# Altium integrated library National Semiconductor MiscPower.IntLib: 1552 symbols (part 7 of 43)
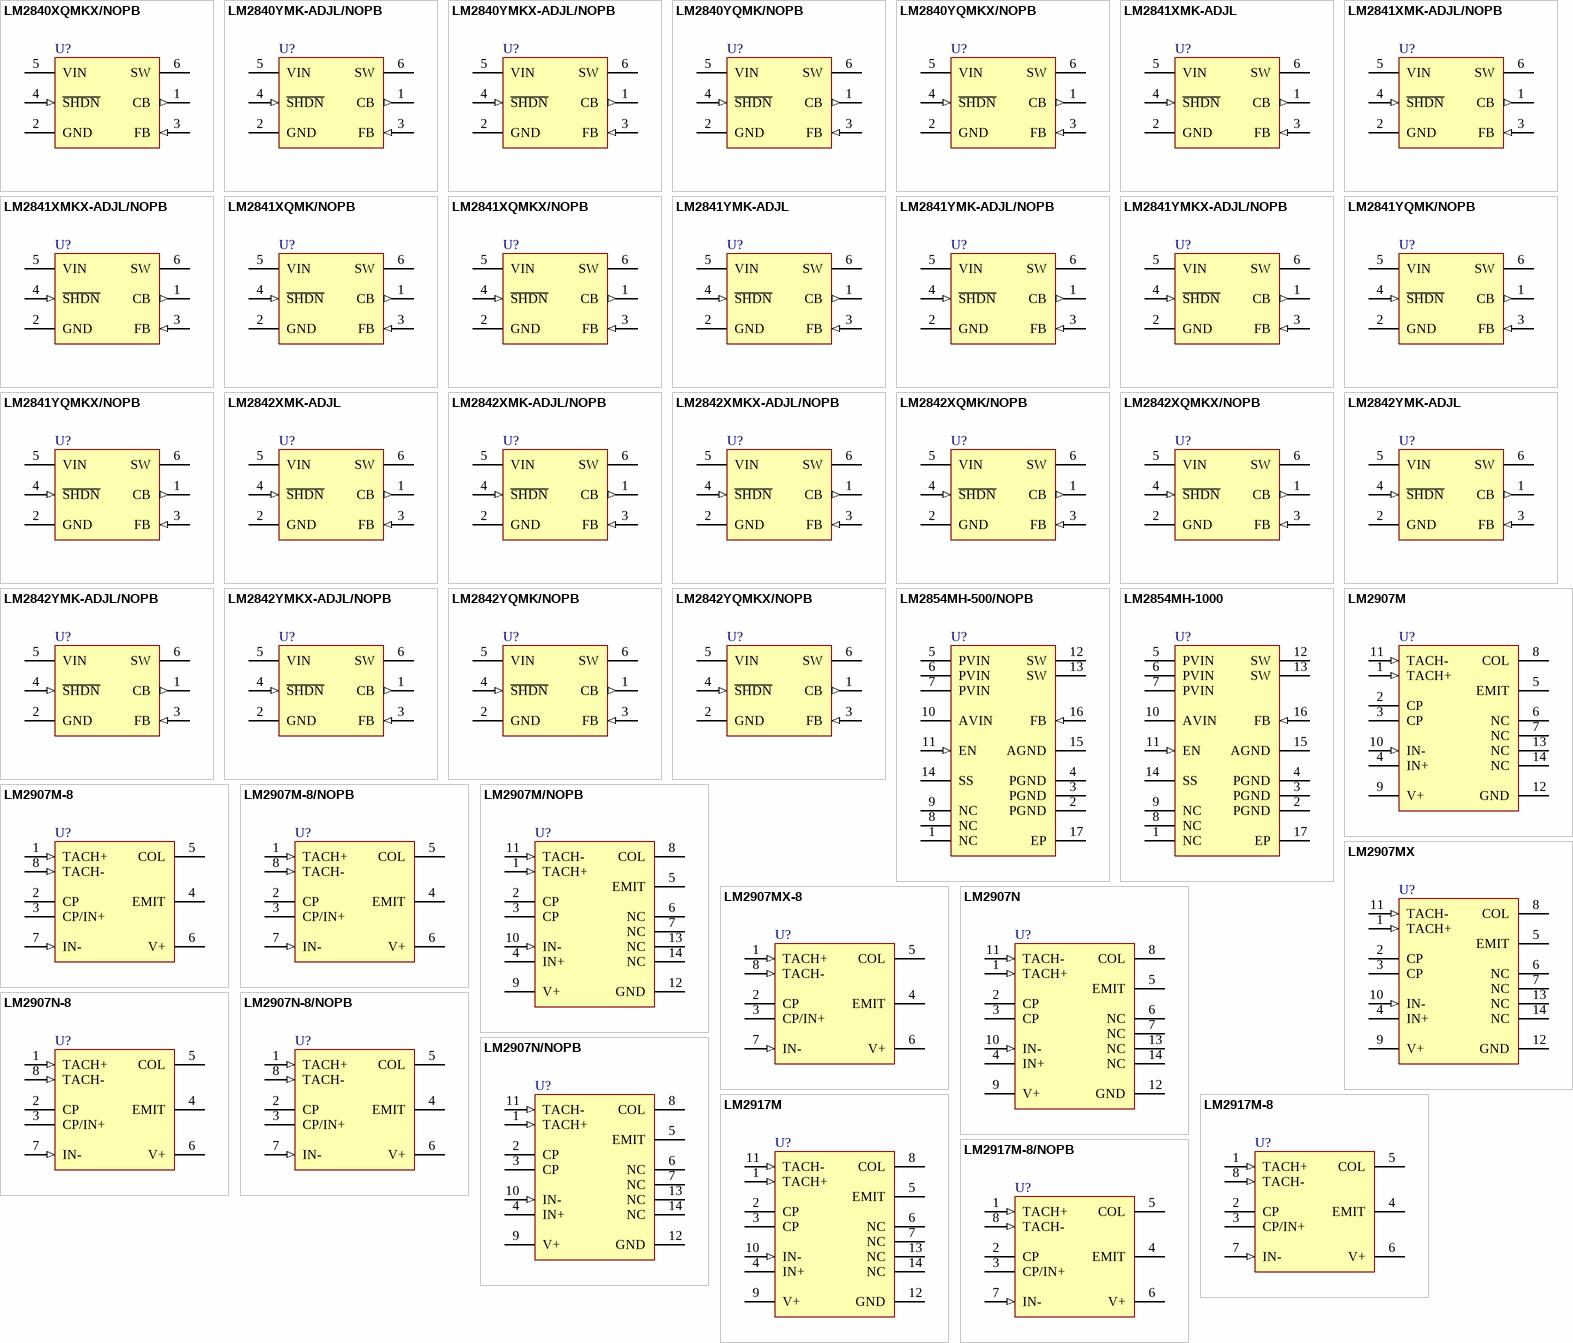
[diagram p63: symbols LM2840XQMKX/NOPB to LM2917M-8/NOPB]

## LM2842XMK-ADJL/NOPB
designator U?
600 mA up to 42V Input Step-Down DC/DC Regulator, Thin 6-pin SOT23, Pb-Free, 1000 Reel; PartNumber: LM2842XMK-ADJL/NOPB; Manufacturer: National Semiconductor; PackageTopMarking: STVB*XTT; PowerWise: N; CompType: MiscPower; High-Reliability: Y; DatasheetVersion: Aug-2011; PackageVersion: revE, Nov-2008; PackageReference: MK06A; PackageDescription: Molded TSOT, 2.97 x 1.65 x 0.87mm Body, 6 Lead, 0.95mm Pitch; RoHS: Y; PinCount: 6; Code_JEDEC: MO-193-AA; Code_IPC: SOT26A-6; ComponentLink1Description: Manufacturer URL; ComponentLink1URL: http://www.national.com/; ComponentLink2Description: LM2842 Datasheet; ComponentLink2URL: http://www.national.com/ds/LM/LM2840.pdf; ComponentLink3Description: LM2842 Web Page; ComponentLink3URL: http://www.national.com/pf/LM/LM2842.html; ComponentLink4Description: MK06A Package Page; ComponentLink4URL: http://www.national.com/packaging/folders/mk06a.html
footprint MK06A_N (SOT23, 6-Leads, Body 3.0x1.7mm, Pitch 0.95mm, Lead Span 2.9mm, IPC Medium Density)
footprint MK06A_L (SOT23, 6-Leads, Body 3.0x1.7mm, Pitch 0.95mm, Lead Span 2.9mm, IPC High Density)
footprint MK06A_M (SOT23, 6-Leads, Body 3.0x1.7mm, Pitch 0.95mm, Lead Span 2.9mm, IPC Low Density)
pins: 1 CB (out), 2 GND (power), 3 FB (in), 4 ~{SHDN} (in), 5 VIN (power), 6 SW (power)

## LM2842XMKX-ADJL/NOPB
designator U?
600 mA up to 42V Input Step-Down DC/DC Regulator, Thin 6-pin SOT23, Pb-Free, 3000 Reel; PartNumber: LM2842XMKX-ADJL/NOPB; Manufacturer: National Semiconductor; PackageTopMarking: STVB*XTT; PowerWise: N; CompType: MiscPower; High-Reliability: Y; DatasheetVersion: Aug-2011; PackageVersion: revE, Nov-2008; PackageReference: MK06A; PackageDescription: Molded TSOT, 2.97 x 1.65 x 0.87mm Body, 6 Lead, 0.95mm Pitch; RoHS: Y; PinCount: 6; Code_JEDEC: MO-193-AA; Code_IPC: SOT26A-6; ComponentLink1Description: Manufacturer URL; ComponentLink1URL: http://www.national.com/; ComponentLink2Description: LM2842 Datasheet; ComponentLink2URL: http://www.national.com/ds/LM/LM2840.pdf; ComponentLink3Description: LM2842 Web Page; ComponentLink3URL: http://www.national.com/pf/LM/LM2842.html; ComponentLink4Description: MK06A Package Page; ComponentLink4URL: http://www.national.com/packaging/folders/mk06a.html
footprint MK06A_N (SOT23, 6-Leads, Body 3.0x1.7mm, Pitch 0.95mm, Lead Span 2.9mm, IPC Medium Density)
footprint MK06A_L (SOT23, 6-Leads, Body 3.0x1.7mm, Pitch 0.95mm, Lead Span 2.9mm, IPC High Density)
footprint MK06A_M (SOT23, 6-Leads, Body 3.0x1.7mm, Pitch 0.95mm, Lead Span 2.9mm, IPC Low Density)
pins: 1 CB (out), 2 GND (power), 3 FB (in), 4 ~{SHDN} (in), 5 VIN (power), 6 SW (power)

## LM2842XQMK/NOPB
designator U?
600 mA up to 42V Input Step-Down DC/DC Regulator, Automotive Grade 1, Thin 6-pin SOT23, Pb-Free, 1000 Reel; PartNumber: LM2842XQMK/NOPB; Manufacturer: National Semiconductor; PackageTopMarking: SB3B*XTT; PowerWise: N; CompType: MiscPower; High-Reliability: Y; DatasheetVersion: Aug-2011; PackageVersion: revE, Nov-2008; PackageReference: MK06A; PackageDescription: Molded TSOT, 2.97 x 1.65 x 0.87mm Body, 6 Lead, 0.95mm Pitch; RoHS: Y; PinCount: 6; Code_JEDEC: MO-193-AA; Code_IPC: SOT26A-6; ComponentLink1Description: Manufacturer URL; ComponentLink1URL: http://www.national.com/; ComponentLink2Description: LM2842 Datasheet; ComponentLink2URL: http://www.national.com/ds/LM/LM2840.pdf; ComponentLink3Description: LM2842 Web Page; ComponentLink3URL: http://www.national.com/pf/LM/LM2842.html; ComponentLink4Description: MK06A Package Page; ComponentLink4URL: http://www.national.com/packaging/folders/mk06a.html
footprint MK06A_N (SOT23, 6-Leads, Body 3.0x1.7mm, Pitch 0.95mm, Lead Span 2.9mm, IPC Medium Density)
footprint MK06A_L (SOT23, 6-Leads, Body 3.0x1.7mm, Pitch 0.95mm, Lead Span 2.9mm, IPC High Density)
footprint MK06A_M (SOT23, 6-Leads, Body 3.0x1.7mm, Pitch 0.95mm, Lead Span 2.9mm, IPC Low Density)
pins: 1 CB (out), 2 GND (power), 3 FB (in), 4 ~{SHDN} (in), 5 VIN (power), 6 SW (power)

## LM2842XQMKX/NOPB
designator U?
600 mA up to 42V Input Step-Down DC/DC Regulator, Automotive Grade 1, Thin 6-pin SOT23, Pb-Free, 3000 Reel; PartNumber: LM2842XQMKX/NOPB; Manufacturer: National Semiconductor; PackageTopMarking: SB3B*XTT; PowerWise: N; CompType: MiscPower; High-Reliability: Y; DatasheetVersion: Aug-2011; PackageVersion: revE, Nov-2008; PackageReference: MK06A; PackageDescription: Molded TSOT, 2.97 x 1.65 x 0.87mm Body, 6 Lead, 0.95mm Pitch; RoHS: Y; PinCount: 6; Code_JEDEC: MO-193-AA; Code_IPC: SOT26A-6; ComponentLink1Description: Manufacturer URL; ComponentLink1URL: http://www.national.com/; ComponentLink2Description: LM2842 Datasheet; ComponentLink2URL: http://www.national.com/ds/LM/LM2840.pdf; ComponentLink3Description: LM2842 Web Page; ComponentLink3URL: http://www.national.com/pf/LM/LM2842.html; ComponentLink4Description: MK06A Package Page; ComponentLink4URL: http://www.national.com/packaging/folders/mk06a.html
footprint MK06A_N (SOT23, 6-Leads, Body 3.0x1.7mm, Pitch 0.95mm, Lead Span 2.9mm, IPC Medium Density)
footprint MK06A_L (SOT23, 6-Leads, Body 3.0x1.7mm, Pitch 0.95mm, Lead Span 2.9mm, IPC High Density)
footprint MK06A_M (SOT23, 6-Leads, Body 3.0x1.7mm, Pitch 0.95mm, Lead Span 2.9mm, IPC Low Density)
pins: 1 CB (out), 2 GND (power), 3 FB (in), 4 ~{SHDN} (in), 5 VIN (power), 6 SW (power)

## LM2842YMK-ADJL
designator U?
300 mA/600 mA up to 42V Input Step-Down DC/DC Regulator, 6-pin Tiny SOT23; PartNumber: LM2842YMK-ADJL; Manufacturer: National Semiconductor; PackageTopMarking: STXB*XTT; PowerWise: N; CompType: MiscPower; High-Reliability: Y; DatasheetVersion: Sep-2009; PackageVersion: revE, Nov-2008; PackageReference: MK06A; PackageDescription: Molded TSOT, 2.97 x 1.65 x 0.87mm Body, 6 Lead, 0.95mm Pitch; RoHS: Y; PinCount: 6; Code_JEDEC: MO-193-AA; Code_IPC: SOT26A-6; ComponentLink1Description: Manufacturer URL; ComponentLink1URL: http://www.national.com/; ComponentLink2Description: LM2841 Datasheet; ComponentLink2URL: http://www.national.com/ds/LM/LM2841.pdf; ComponentLink3Description: LM2842 Web Page; ComponentLink3URL: http://www.national.com/pf/LM/LM2842.html; ComponentLink4Description: MK06A Package Page; ComponentLink4URL: http://www.national.com/packaging/folders/mk06a.html
footprint MK06A_N (SOT23, 6-Leads, Body 3.0x1.7mm, Pitch 0.95mm, Lead Span 2.9mm, IPC Medium Density)
footprint MK06A_L (SOT23, 6-Leads, Body 3.0x1.7mm, Pitch 0.95mm, Lead Span 2.9mm, IPC High Density)
footprint MK06A_M (SOT23, 6-Leads, Body 3.0x1.7mm, Pitch 0.95mm, Lead Span 2.9mm, IPC Low Density)
pins: 1 CB (out), 2 GND (power), 3 FB (in), 4 ~{SHDN} (in), 5 VIN (power), 6 SW (power)

## LM2842YMK-ADJL/NOPB
designator U?
600 mA up to 42V Input Step-Down DC/DC Regulator, Thin 6-pin SOT23, Pb-Free, 1000 Reel; PartNumber: LM2842YMK-ADJL/NOPB; Manufacturer: National Semiconductor; PackageTopMarking: STXB*XTT; PowerWise: N; CompType: MiscPower; High-Reliability: Y; DatasheetVersion: Aug-2011; PackageVersion: revE, Nov-2008; PackageReference: MK06A; PackageDescription: Molded TSOT, 2.97 x 1.65 x 0.87mm Body, 6 Lead, 0.95mm Pitch; RoHS: Y; PinCount: 6; Code_JEDEC: MO-193-AA; Code_IPC: SOT26A-6; ComponentLink1Description: Manufacturer URL; ComponentLink1URL: http://www.national.com/; ComponentLink2Description: LM2842 Datasheet; ComponentLink2URL: http://www.national.com/ds/LM/LM2840.pdf; ComponentLink3Description: LM2842 Web Page; ComponentLink3URL: http://www.national.com/pf/LM/LM2842.html; ComponentLink4Description: MK06A Package Page; ComponentLink4URL: http://www.national.com/packaging/folders/mk06a.html
footprint MK06A_N (SOT23, 6-Leads, Body 3.0x1.7mm, Pitch 0.95mm, Lead Span 2.9mm, IPC Medium Density)
footprint MK06A_L (SOT23, 6-Leads, Body 3.0x1.7mm, Pitch 0.95mm, Lead Span 2.9mm, IPC High Density)
footprint MK06A_M (SOT23, 6-Leads, Body 3.0x1.7mm, Pitch 0.95mm, Lead Span 2.9mm, IPC Low Density)
pins: 1 CB (out), 2 GND (power), 3 FB (in), 4 ~{SHDN} (in), 5 VIN (power), 6 SW (power)

## LM2842YMKX-ADJL/NOPB
designator U?
600 mA up to 42V Input Step-Down DC/DC Regulator, Thin 6-pin SOT23, Pb-Free, 3000 Reel; PartNumber: LM2842YMKX-ADJL/NOPB; Manufacturer: National Semiconductor; PackageTopMarking: STXB*XTT; PowerWise: N; CompType: MiscPower; High-Reliability: Y; DatasheetVersion: Aug-2011; PackageVersion: revE, Nov-2008; PackageReference: MK06A; PackageDescription: Molded TSOT, 2.97 x 1.65 x 0.87mm Body, 6 Lead, 0.95mm Pitch; RoHS: Y; PinCount: 6; Code_JEDEC: MO-193-AA; Code_IPC: SOT26A-6; ComponentLink1Description: Manufacturer URL; ComponentLink1URL: http://www.national.com/; ComponentLink2Description: LM2842 Datasheet; ComponentLink2URL: http://www.national.com/ds/LM/LM2840.pdf; ComponentLink3Description: LM2842 Web Page; ComponentLink3URL: http://www.national.com/pf/LM/LM2842.html; ComponentLink4Description: MK06A Package Page; ComponentLink4URL: http://www.national.com/packaging/folders/mk06a.html
footprint MK06A_N (SOT23, 6-Leads, Body 3.0x1.7mm, Pitch 0.95mm, Lead Span 2.9mm, IPC Medium Density)
footprint MK06A_L (SOT23, 6-Leads, Body 3.0x1.7mm, Pitch 0.95mm, Lead Span 2.9mm, IPC High Density)
footprint MK06A_M (SOT23, 6-Leads, Body 3.0x1.7mm, Pitch 0.95mm, Lead Span 2.9mm, IPC Low Density)
pins: 1 CB (out), 2 GND (power), 3 FB (in), 4 ~{SHDN} (in), 5 VIN (power), 6 SW (power)

## LM2842YQMK/NOPB
designator U?
600 mA up to 42V Input Step-Down DC/DC Regulator, Automotive Grade 1, Thin 6-pin SOT23, Pb-Free, 1000 Reel; PartNumber: LM2842YQMK/NOPB; Manufacturer: National Semiconductor; PackageTopMarking: SB4B*XTT; PowerWise: N; CompType: MiscPower; High-Reliability: Y; DatasheetVersion: Aug-2011; PackageVersion: revE, Nov-2008; PackageReference: MK06A; PackageDescription: Molded TSOT, 2.97 x 1.65 x 0.87mm Body, 6 Lead, 0.95mm Pitch; RoHS: Y; PinCount: 6; Code_JEDEC: MO-193-AA; Code_IPC: SOT26A-6; ComponentLink1Description: Manufacturer URL; ComponentLink1URL: http://www.national.com/; ComponentLink2Description: LM2842 Datasheet; ComponentLink2URL: http://www.national.com/ds/LM/LM2840.pdf; ComponentLink3Description: LM2842 Web Page; ComponentLink3URL: http://www.national.com/pf/LM/LM2842.html; ComponentLink4Description: MK06A Package Page; ComponentLink4URL: http://www.national.com/packaging/folders/mk06a.html
footprint MK06A_N (SOT23, 6-Leads, Body 3.0x1.7mm, Pitch 0.95mm, Lead Span 2.9mm, IPC Medium Density)
footprint MK06A_L (SOT23, 6-Leads, Body 3.0x1.7mm, Pitch 0.95mm, Lead Span 2.9mm, IPC High Density)
footprint MK06A_M (SOT23, 6-Leads, Body 3.0x1.7mm, Pitch 0.95mm, Lead Span 2.9mm, IPC Low Density)
pins: 1 CB (out), 2 GND (power), 3 FB (in), 4 ~{SHDN} (in), 5 VIN (power), 6 SW (power)

## LM2842YQMKX/NOPB
designator U?
600 mA up to 42V Input Step-Down DC/DC Regulator, Automotive Grade 1, Thin 6-pin SOT23, Pb-Free, 3000 Reel; PartNumber: LM2842YQMKX/NOPB; Manufacturer: National Semiconductor; PackageTopMarking: SB4B*XTT; PowerWise: N; CompType: MiscPower; High-Reliability: Y; DatasheetVersion: Aug-2011; PackageVersion: revE, Nov-2008; PackageReference: MK06A; PackageDescription: Molded TSOT, 2.97 x 1.65 x 0.87mm Body, 6 Lead, 0.95mm Pitch; RoHS: Y; PinCount: 6; Code_JEDEC: MO-193-AA; Code_IPC: SOT26A-6; ComponentLink1Description: Manufacturer URL; ComponentLink1URL: http://www.national.com/; ComponentLink2Description: LM2842 Datasheet; ComponentLink2URL: http://www.national.com/ds/LM/LM2840.pdf; ComponentLink3Description: LM2842 Web Page; ComponentLink3URL: http://www.national.com/pf/LM/LM2842.html; ComponentLink4Description: MK06A Package Page; ComponentLink4URL: http://www.national.com/packaging/folders/mk06a.html
footprint MK06A_N (SOT23, 6-Leads, Body 3.0x1.7mm, Pitch 0.95mm, Lead Span 2.9mm, IPC Medium Density)
footprint MK06A_L (SOT23, 6-Leads, Body 3.0x1.7mm, Pitch 0.95mm, Lead Span 2.9mm, IPC High Density)
footprint MK06A_M (SOT23, 6-Leads, Body 3.0x1.7mm, Pitch 0.95mm, Lead Span 2.9mm, IPC Low Density)
pins: 1 CB (out), 2 GND (power), 3 FB (in), 4 ~{SHDN} (in), 5 VIN (power), 6 SW (power)

## LM2854MH-500/NOPB
designator U?
4A 500 kHz / 1 MHz Synchronous SIMPLE SWITCHER® Buck Regulator, 16-pin TSSOP-EP, Pb-Free; PartNumber: LM2854MH-500/NOPB; Manufacturer: National Semiconductor; PackageTopMarking: NSUZXYTT*LM2854*-500; PowerWise: Y; CompType: MiscPower; DatasheetVersion: Nov-2008; PackageVersion: revA, Apr-2003; PackageReference: MXA16A; PackageDescription: Molded TSSOP, Jedec, Exposed Pad, 5.0 x 4.4 x 0.9mm Body,16 Lead, 0.65mm Pitch; RoHS: Y; PinCount: 16; High-Reliability: Y; Code_JEDEC: MO-153-ABT; ComponentLink1Description: Manufacturer URL; ComponentLink1URL: http://www.national.com/; ComponentLink2Description: LM2854 Datasheet; ComponentLink2URL: http://www.national.com/ds/LM/LM2854.pdf; ComponentLink3Description: LM2854 Web Page; ComponentLink3URL: http://www.national.com/pf/LM/LM2854.html; ComponentLink4Description: MXA16A Package Page; ComponentLink4URL: http://www.national.com/packaging/folders/mxa16a.html
footprint MXA16A_N (TSOP, 16-Leads, Body 5x4.4mm, Pitch 0.65mm, Thermal Pad, IPC Medium Density)
footprint MXA16A_L (TSOP, 16-Leads, Body 5x4.4mm, Pitch 0.65mm, Thermal Pad, IPC High Density)
footprint MXA16A_M (TSOP, 16-Leads, Body 5x4.4mm, Pitch 0.65mm, Thermal Pad, IPC Low Density)
pins: 1 NC, 2 PGND (power), 3 PGND (power), 4 PGND (power), 5 PVIN (power), 6 PVIN (power), 7 PVIN (power), 8 NC, 9 NC, 10 AVIN (power), 11 EN (in), 12 SW (power), 13 SW (power), 14 SS, 15 AGND (power), 16 FB (in), 17 EP (power)

## LM2854MH-1000
designator U?
4A 500 kHz / 1 MHz PowerWise Synchronous SIMPLE SWITCHER® Buck Regulator, 16-pin TSSOP-EP; PartNumber: LM2854MH-1000; Manufacturer: National Semiconductor; PackageTopMarking: NSUZXYTT*LM2854*-1000; PowerWise: Y; CompType: MiscPower; DatasheetVersion: Nov-2008; PackageVersion: revA, Apr-2003; PackageReference: MXA16A; PackageDescription: Molded TSSOP, Jedec, Exposed Pad, 5.0 x 4.4 x 0.9mm Body,16 Lead, 0.65mm Pitch; RoHS: Y; PinCount: 16; High-Reliability: Y; Code_JEDEC: MO-153-ABT; ComponentLink1Description: Manufacturer URL; ComponentLink1URL: http://www.national.com/; ComponentLink2Description: LM2854 Datasheet; ComponentLink2URL: http://www.national.com/ds/LM/LM2854.pdf; ComponentLink3Description: LM2854 Web Page; ComponentLink3URL: http://www.national.com/pf/LM/LM2854.html; ComponentLink4Description: MXA16A Package Page; ComponentLink4URL: http://www.national.com/packaging/folders/mxa16a.html
footprint MXA16A_N (TSOP, 16-Leads, Body 5x4.4mm, Pitch 0.65mm, Thermal Pad, IPC Medium Density)
footprint MXA16A_L (TSOP, 16-Leads, Body 5x4.4mm, Pitch 0.65mm, Thermal Pad, IPC High Density)
footprint MXA16A_M (TSOP, 16-Leads, Body 5x4.4mm, Pitch 0.65mm, Thermal Pad, IPC Low Density)
pins: 1 NC, 2 PGND (power), 3 PGND (power), 4 PGND (power), 5 PVIN (power), 6 PVIN (power), 7 PVIN (power), 8 NC, 9 NC, 10 AVIN (power), 11 EN (in), 12 SW (power), 13 SW (power), 14 SS, 15 AGND (power), 16 FB (in), 17 EP (power)

## LM2907M
designator U?
Frequency to Voltage Converter, 14-pin Narrow SOIC; PartNumber: LM2907M; Manufacturer: National Semiconductor; PackageTopMarking: NSUZXYTTE#*LM2907M; PowerWise: N; CompType: MiscPower; High-Reliability: Y; DatasheetVersion: Dec-2008; PackageVersion: revJ, Jan-1996; PackageReference: M14A; PackageDescription: Molded Package S.O., .150in Wide, 14 Lead; RoHS: N; PinCount: 14; Code_JEDEC: MS-012AB; Code_IPC: SOIC127P600-14; ComponentLink1Description: Manufacturer URL; ComponentLink1URL: http://www.national.com/; ComponentLink2Description: LM2907 Datasheet; ComponentLink2URL: http://www.national.com/ds/LM/LM2907.pdf; ComponentLink3Description: LM2907 Web Page; ComponentLink3URL: http://www.national.com/pf/LM/LM2907.html; ComponentLink4Description: M14A Package Page; ComponentLink4URL: http://www.national.com/packaging/folders/m14a.html
footprint M14A_N (SOIC, 14-Leads, Body 8.6x3.9mm, Pitch 1.27mm, IPC Medium Density)
footprint M14A_L (SOIC, 14-Leads, Body 8.6x3.9mm, Pitch 1.27mm, IPC High Density)
footprint M14A_M (SOIC, 14-Leads, Body 8.6x3.9mm, Pitch 1.27mm, IPC Low Density)
pins: 1 TACH+ (in), 2 CP, 3 CP, 4 IN+, 5 EMIT, 6 NC, 7 NC, 8 COL, 9 V+ (power), 10 IN- (in), 11 TACH- (in), 12 GND (power), 13 NC, 14 NC

## LM2907M-8
designator U?
Frequency to Voltage Converter, 8-pin Narrow SOIC; PartNumber: LM2907M-8; Manufacturer: National Semiconductor; PackageTopMarking: NSZXTT*LM29*07M-8; PowerWise: N; CompType: MiscPower; High-Reliability: Y; DatasheetVersion: Dec-2008; PackageVersion: revM, May-2009; PackageReference: M08A; PackageDescription: SOIC Narrow, 4.9 x 3.9 x 1.45mm, 8 Lead, 1.27mm Pitch; RoHS: N; PinCount: 8; Code_JEDEC: MS-012-AA; Code_IPC: SOIC127P600-8; ComponentLink1Description: Manufacturer URL; ComponentLink1URL: http://www.national.com/; ComponentLink2Description: LM2907 Datasheet; ComponentLink2URL: http://www.national.com/ds/LM/LM2907.pdf; ComponentLink3Description: LM2907 Web Page; ComponentLink3URL: http://www.national.com/pf/LM/LM2907.html; ComponentLink4Description: M08A Package Page; ComponentLink4URL: http://www.national.com/packaging/folders/m08a.html
footprint M08A_N (SOIC, 8-Leads, Body 4.9x3.9mm, Pitch 1.27mm, IPC Medium Density)
footprint M08A_L (SOIC, 8-Leads, Body 4.9x3.9mm, Pitch 1.27mm, IPC High Density)
footprint M08A_M (SOIC, 8-Leads, Body 4.9x3.9mm, Pitch 1.27mm, IPC Low Density)
pins: 1 TACH+ (in), 2 CP, 3 CP/IN+, 4 EMIT, 5 COL, 6 V+ (power), 7 IN- (in), 8 TACH- (in)

## LM2907M-8/NOPB
designator U?
Frequency to Voltage Converter, 8-pin Narrow SOIC, Pb-Free; PartNumber: LM2907M-8/NOPB; Manufacturer: National Semiconductor; PackageTopMarking: NSZXTT*LM29*07M-8; PowerWise: N; CompType: MiscPower; High-Reliability: Y; DatasheetVersion: Dec-2008; PackageVersion: revM, May-2009; PackageReference: M08A; PackageDescription: SOIC Narrow, 4.9 x 3.9 x 1.45mm, 8 Lead, 1.27mm Pitch; RoHS: Y; PinCount: 8; Code_JEDEC: MS-012-AA; Code_IPC: SOIC127P600-8; ComponentLink1Description: Manufacturer URL; ComponentLink1URL: http://www.national.com/; ComponentLink2Description: LM2907 Datasheet; ComponentLink2URL: http://www.national.com/ds/LM/LM2907.pdf; ComponentLink3Description: LM2907 Web Page; ComponentLink3URL: http://www.national.com/pf/LM/LM2907.html; ComponentLink4Description: M08A Package Page; ComponentLink4URL: http://www.national.com/packaging/folders/m08a.html
footprint M08A_N (SOIC, 8-Leads, Body 4.9x3.9mm, Pitch 1.27mm, IPC Medium Density)
footprint M08A_L (SOIC, 8-Leads, Body 4.9x3.9mm, Pitch 1.27mm, IPC High Density)
footprint M08A_M (SOIC, 8-Leads, Body 4.9x3.9mm, Pitch 1.27mm, IPC Low Density)
pins: 1 TACH+ (in), 2 CP, 3 CP/IN+, 4 EMIT, 5 COL, 6 V+ (power), 7 IN- (in), 8 TACH- (in)

## LM2907M/NOPB
designator U?
Frequency to Voltage Converter, 14-pin Narrow SOIC, Pb-Free; PartNumber: LM2907M/NOPB; Manufacturer: National Semiconductor; PackageTopMarking: NSUZXYTTE#*LM2907M; PowerWise: N; CompType: MiscPower; High-Reliability: Y; DatasheetVersion: Dec-2008; PackageVersion: revJ, Jan-1996; PackageReference: M14A; PackageDescription: Molded Package S.O., .150in Wide, 14 Lead; RoHS: Y; PinCount: 14; Code_JEDEC: MS-012AB; Code_IPC: SOIC127P600-14; ComponentLink1Description: Manufacturer URL; ComponentLink1URL: http://www.national.com/; ComponentLink2Description: LM2907 Datasheet; ComponentLink2URL: http://www.national.com/ds/LM/LM2907.pdf; ComponentLink3Description: LM2907 Web Page; ComponentLink3URL: http://www.national.com/pf/LM/LM2907.html; ComponentLink4Description: M14A Package Page; ComponentLink4URL: http://www.national.com/packaging/folders/m14a.html
footprint M14A_N (SOIC, 14-Leads, Body 8.6x3.9mm, Pitch 1.27mm, IPC Medium Density)
footprint M14A_L (SOIC, 14-Leads, Body 8.6x3.9mm, Pitch 1.27mm, IPC High Density)
footprint M14A_M (SOIC, 14-Leads, Body 8.6x3.9mm, Pitch 1.27mm, IPC Low Density)
pins: 1 TACH+ (in), 2 CP, 3 CP, 4 IN+, 5 EMIT, 6 NC, 7 NC, 8 COL, 9 V+ (power), 10 IN- (in), 11 TACH- (in), 12 GND (power), 13 NC, 14 NC

## LM2907MX
designator U?
Frequency to Voltage Converter, 14-pin Narrow SOIC; PartNumber: LM2907MX; Manufacturer: National Semiconductor; PackageTopMarking: NSUZXYTTE#*LM2907M; PowerWise: N; CompType: MiscPower; High-Reliability: Y; DatasheetVersion: Dec-2008; PackageVersion: revJ, Jan-1996; PackageReference: M14A; PackageDescription: Molded Package S.O., .150in Wide, 14 Lead; RoHS: N; PinCount: 14; Code_JEDEC: MS-012AB; Code_IPC: SOIC127P600-14; ComponentLink1Description: Manufacturer URL; ComponentLink1URL: http://www.national.com/; ComponentLink2Description: LM2907 Datasheet; ComponentLink2URL: http://www.national.com/ds/LM/LM2907.pdf; ComponentLink3Description: LM2907 Web Page; ComponentLink3URL: http://www.national.com/pf/LM/LM2907.html; ComponentLink4Description: M14A Package Page; ComponentLink4URL: http://www.national.com/packaging/folders/m14a.html
footprint M14A_N (SOIC, 14-Leads, Body 8.6x3.9mm, Pitch 1.27mm, IPC Medium Density)
footprint M14A_L (SOIC, 14-Leads, Body 8.6x3.9mm, Pitch 1.27mm, IPC High Density)
footprint M14A_M (SOIC, 14-Leads, Body 8.6x3.9mm, Pitch 1.27mm, IPC Low Density)
pins: 1 TACH+ (in), 2 CP, 3 CP, 4 IN+, 5 EMIT, 6 NC, 7 NC, 8 COL, 9 V+ (power), 10 IN- (in), 11 TACH- (in), 12 GND (power), 13 NC, 14 NC

## LM2907MX-8
designator U?
Frequency to Voltage Converter, 8-pin Narrow SOIC; PartNumber: LM2907MX-8; Manufacturer: National Semiconductor; PackageTopMarking: NSZXTT*LM29*07M-8; PowerWise: N; CompType: MiscPower; High-Reliability: Y; DatasheetVersion: Dec-2008; PackageVersion: revM, May-2009; PackageReference: M08A; PackageDescription: SOIC Narrow, 4.9 x 3.9 x 1.45mm, 8 Lead, 1.27mm Pitch; RoHS: N; PinCount: 8; Code_JEDEC: MS-012-AA; Code_IPC: SOIC127P600-8; ComponentLink1Description: Manufacturer URL; ComponentLink1URL: http://www.national.com/; ComponentLink2Description: LM2907 Datasheet; ComponentLink2URL: http://www.national.com/ds/LM/LM2907.pdf; ComponentLink3Description: LM2907 Web Page; ComponentLink3URL: http://www.national.com/pf/LM/LM2907.html; ComponentLink4Description: M08A Package Page; ComponentLink4URL: http://www.national.com/packaging/folders/m08a.html
footprint M08A_N (SOIC, 8-Leads, Body 4.9x3.9mm, Pitch 1.27mm, IPC Medium Density)
footprint M08A_L (SOIC, 8-Leads, Body 4.9x3.9mm, Pitch 1.27mm, IPC High Density)
footprint M08A_M (SOIC, 8-Leads, Body 4.9x3.9mm, Pitch 1.27mm, IPC Low Density)
pins: 1 TACH+ (in), 2 CP, 3 CP/IN+, 4 EMIT, 5 COL, 6 V+ (power), 7 IN- (in), 8 TACH- (in)

## LM2907N
designator U?
Frequency to Voltage Converter, 14-pin MDIP; PartNumber: LM2907N; Manufacturer: National Semiconductor; PackageTopMarking: NSUZXYYTTE#*LM2907N; PowerWise: N; CompType: MiscPower; High-Reliability: Y; DatasheetVersion: Dec-2008; PackageVersion: revG, May-2006; PackageReference: N14A; PackageDescription: MDIP, .750 x .250 x.130in, 14 Lead, .100in Pitch; RoHS: N; PinCount: 14; Code_JEDEC: MS-001-AA; ComponentLink1Description: Manufacturer URL; ComponentLink1URL: http://www.national.com/; ComponentLink2Description: LM2907 Datasheet; ComponentLink2URL: http://www.national.com/ds/LM/LM2907.pdf; ComponentLink3Description: LM2907 Web Page; ComponentLink3URL: http://www.national.com/pf/LM/LM2907.html; ComponentLink4Description: N14A Package Page; ComponentLink4URL: http://www.national.com/packaging/folders/n14a.html
footprint N14A (DIP, 14-Leads, Row Spacing 7.62mm, Pitch 2.54mm, Body 19.56x6.35mm)
pins: 1 TACH+ (in), 2 CP, 3 CP, 4 IN+, 5 EMIT, 6 NC, 7 NC, 8 COL, 9 V+ (power), 10 IN- (in), 11 TACH- (in), 12 GND (power), 13 NC, 14 NC

## LM2907N-8
designator U?
Frequency to Voltage Converter, 8-pin MDIP; PartNumber: LM2907N-8; Manufacturer: National Semiconductor; PackageTopMarking: NSUZXYTTE#*LM*2907N-8; PowerWise: N; CompType: MiscPower; High-Reliability: Y; DatasheetVersion: Dec-2008; PackageVersion: revG, May-2006; PackageReference: N08E; PackageDescription: MDIP, .365 x .250 x .130in, 8 Lead, .100in Pitch; RoHS: N; PinCount: 8; Code_JEDEC: MS-001-BA; ComponentLink1Description: Manufacturer URL; ComponentLink1URL: http://www.national.com/; ComponentLink2Description: LM2907 Datasheet; ComponentLink2URL: http://www.national.com/ds/LM/LM2907.pdf; ComponentLink3Description: LM2907 Web Page; ComponentLink3URL: http://www.national.com/pf/LM/LM2907.html; ComponentLink4Description: N08E Package Page; ComponentLink4URL: http://www.national.com/packaging/folders/n08e.html
footprint N08E (DIP, 8-Leads, Row Spacing 7.62mm, Pitch 2.54mm, Body 9.91x6.35mm)
pins: 1 TACH+ (in), 2 CP, 3 CP/IN+, 4 EMIT, 5 COL, 6 V+ (power), 7 IN- (in), 8 TACH- (in)

## LM2907N-8/NOPB
designator U?
Frequency to Voltage Converter, 8-pin MDIP, Pb-Free; PartNumber: LM2907N-8/NOPB; Manufacturer: National Semiconductor; PackageTopMarking: NSUZXYTTE#*LM*2907N-8; PowerWise: N; CompType: MiscPower; High-Reliability: Y; DatasheetVersion: Dec-2008; PackageVersion: revG, May-2006; PackageReference: N08E; PackageDescription: MDIP, .365 x .250 x .130in, 8 Lead, .100in Pitch; RoHS: Y; PinCount: 8; Code_JEDEC: MS-001-BA; ComponentLink1Description: Manufacturer URL; ComponentLink1URL: http://www.national.com/; ComponentLink2Description: LM2907 Datasheet; ComponentLink2URL: http://www.national.com/ds/LM/LM2907.pdf; ComponentLink3Description: LM2907 Web Page; ComponentLink3URL: http://www.national.com/pf/LM/LM2907.html; ComponentLink4Description: N08E Package Page; ComponentLink4URL: http://www.national.com/packaging/folders/n08e.html
footprint N08E (DIP, 8-Leads, Row Spacing 7.62mm, Pitch 2.54mm, Body 9.91x6.35mm)
pins: 1 TACH+ (in), 2 CP, 3 CP/IN+, 4 EMIT, 5 COL, 6 V+ (power), 7 IN- (in), 8 TACH- (in)

## LM2907N/NOPB
designator U?
Frequency to Voltage Converter, 14-pin MDIP, Pb-Free; PartNumber: LM2907N/NOPB; Manufacturer: National Semiconductor; PackageTopMarking: NSUZXYYTTE#*LM2907N; PowerWise: N; CompType: MiscPower; High-Reliability: Y; DatasheetVersion: Dec-2008; PackageVersion: revG, May-2006; PackageReference: N14A; PackageDescription: MDIP, .750 x .250 x.130in, 14 Lead, .100in Pitch; RoHS: Y; PinCount: 14; Code_JEDEC: MS-001-AA; ComponentLink1Description: Manufacturer URL; ComponentLink1URL: http://www.national.com/; ComponentLink2Description: LM2907 Datasheet; ComponentLink2URL: http://www.national.com/ds/LM/LM2907.pdf; ComponentLink3Description: LM2907 Web Page; ComponentLink3URL: http://www.national.com/pf/LM/LM2907.html; ComponentLink4Description: N14A Package Page; ComponentLink4URL: http://www.national.com/packaging/folders/n14a.html
footprint N14A (DIP, 14-Leads, Row Spacing 7.62mm, Pitch 2.54mm, Body 19.56x6.35mm)
pins: 1 TACH+ (in), 2 CP, 3 CP, 4 IN+, 5 EMIT, 6 NC, 7 NC, 8 COL, 9 V+ (power), 10 IN- (in), 11 TACH- (in), 12 GND (power), 13 NC, 14 NC

## LM2917M
designator U?
Frequency to Voltage Converter, 14-pin Narrow SOIC; PartNumber: LM2917M; Manufacturer: National Semiconductor; PackageTopMarking: NSUZXYTTE#*LM2917M; PowerWise: N; CompType: MiscPower; High-Reliability: Y; DatasheetVersion: Dec-2008; PackageVersion: revJ, Jan-1996; PackageReference: M14A; PackageDescription: Molded Package S.O., .150in Wide, 14 Lead; RoHS: N; PinCount: 14; Code_JEDEC: MS-012AB; Code_IPC: SOIC127P600-14; ComponentLink1Description: Manufacturer URL; ComponentLink1URL: http://www.national.com/; ComponentLink2Description: LM2917 Datasheet; ComponentLink2URL: http://www.national.com/ds/LM/LM2917.pdf; ComponentLink3Description: LM2917 Web Page; ComponentLink3URL: http://www.national.com/pf/LM/LM2917.html; ComponentLink4Description: M14A Package Page; ComponentLink4URL: http://www.national.com/packaging/folders/m14a.html
footprint M14A_N (SOIC, 14-Leads, Body 8.6x3.9mm, Pitch 1.27mm, IPC Medium Density)
footprint M14A_L (SOIC, 14-Leads, Body 8.6x3.9mm, Pitch 1.27mm, IPC High Density)
footprint M14A_M (SOIC, 14-Leads, Body 8.6x3.9mm, Pitch 1.27mm, IPC Low Density)
pins: 1 TACH+ (in), 2 CP, 3 CP, 4 IN+, 5 EMIT, 6 NC, 7 NC, 8 COL, 9 V+ (power), 10 IN- (in), 11 TACH- (in), 12 GND (power), 13 NC, 14 NC

## LM2917M-8
designator U?
Frequency to Voltage Converter, 8-pin Narrow SOIC; PartNumber: LM2917M-8; Manufacturer: National Semiconductor; PackageTopMarking: NSZXTT*LM29*17M-8; PowerWise: N; CompType: MiscPower; High-Reliability: Y; DatasheetVersion: Dec-2008; PackageVersion: revM, May-2009; PackageReference: M08A; PackageDescription: SOIC Narrow, 4.9 x 3.9 x 1.45mm, 8 Lead, 1.27mm Pitch; RoHS: N; PinCount: 8; Code_JEDEC: MS-012-AA; Code_IPC: SOIC127P600-8; ComponentLink1Description: Manufacturer URL; ComponentLink1URL: http://www.national.com/; ComponentLink2Description: LM2917 Datasheet; ComponentLink2URL: http://www.national.com/ds/LM/LM2917.pdf; ComponentLink3Description: LM2917 Web Page; ComponentLink3URL: http://www.national.com/pf/LM/LM2917.html; ComponentLink4Description: M08A Package Page; ComponentLink4URL: http://www.national.com/packaging/folders/m08a.html
footprint M08A_N (SOIC, 8-Leads, Body 4.9x3.9mm, Pitch 1.27mm, IPC Medium Density)
footprint M08A_L (SOIC, 8-Leads, Body 4.9x3.9mm, Pitch 1.27mm, IPC High Density)
footprint M08A_M (SOIC, 8-Leads, Body 4.9x3.9mm, Pitch 1.27mm, IPC Low Density)
pins: 1 TACH+ (in), 2 CP, 3 CP/IN+, 4 EMIT, 5 COL, 6 V+ (power), 7 IN- (in), 8 TACH- (in)

## LM2917M-8/NOPB
designator U?
Frequency to Voltage Converter, 8-pin Narrow SOIC, Pb-Free; PartNumber: LM2917M-8/NOPB; Manufacturer: National Semiconductor; PackageTopMarking: NSZXTT*LM29*17M-8; PowerWise: N; CompType: MiscPower; High-Reliability: Y; DatasheetVersion: Dec-2008; PackageVersion: revM, May-2009; PackageReference: M08A; PackageDescription: SOIC Narrow, 4.9 x 3.9 x 1.45mm, 8 Lead, 1.27mm Pitch; RoHS: Y; PinCount: 8; Code_JEDEC: MS-012-AA; Code_IPC: SOIC127P600-8; ComponentLink1Description: Manufacturer URL; ComponentLink1URL: http://www.national.com/; ComponentLink2Description: LM2917 Datasheet; ComponentLink2URL: http://www.national.com/ds/LM/LM2917.pdf; ComponentLink3Description: LM2917 Web Page; ComponentLink3URL: http://www.national.com/pf/LM/LM2917.html; ComponentLink4Description: M08A Package Page; ComponentLink4URL: http://www.national.com/packaging/folders/m08a.html
footprint M08A_N (SOIC, 8-Leads, Body 4.9x3.9mm, Pitch 1.27mm, IPC Medium Density)
footprint M08A_L (SOIC, 8-Leads, Body 4.9x3.9mm, Pitch 1.27mm, IPC High Density)
footprint M08A_M (SOIC, 8-Leads, Body 4.9x3.9mm, Pitch 1.27mm, IPC Low Density)
pins: 1 TACH+ (in), 2 CP, 3 CP/IN+, 4 EMIT, 5 COL, 6 V+ (power), 7 IN- (in), 8 TACH- (in)

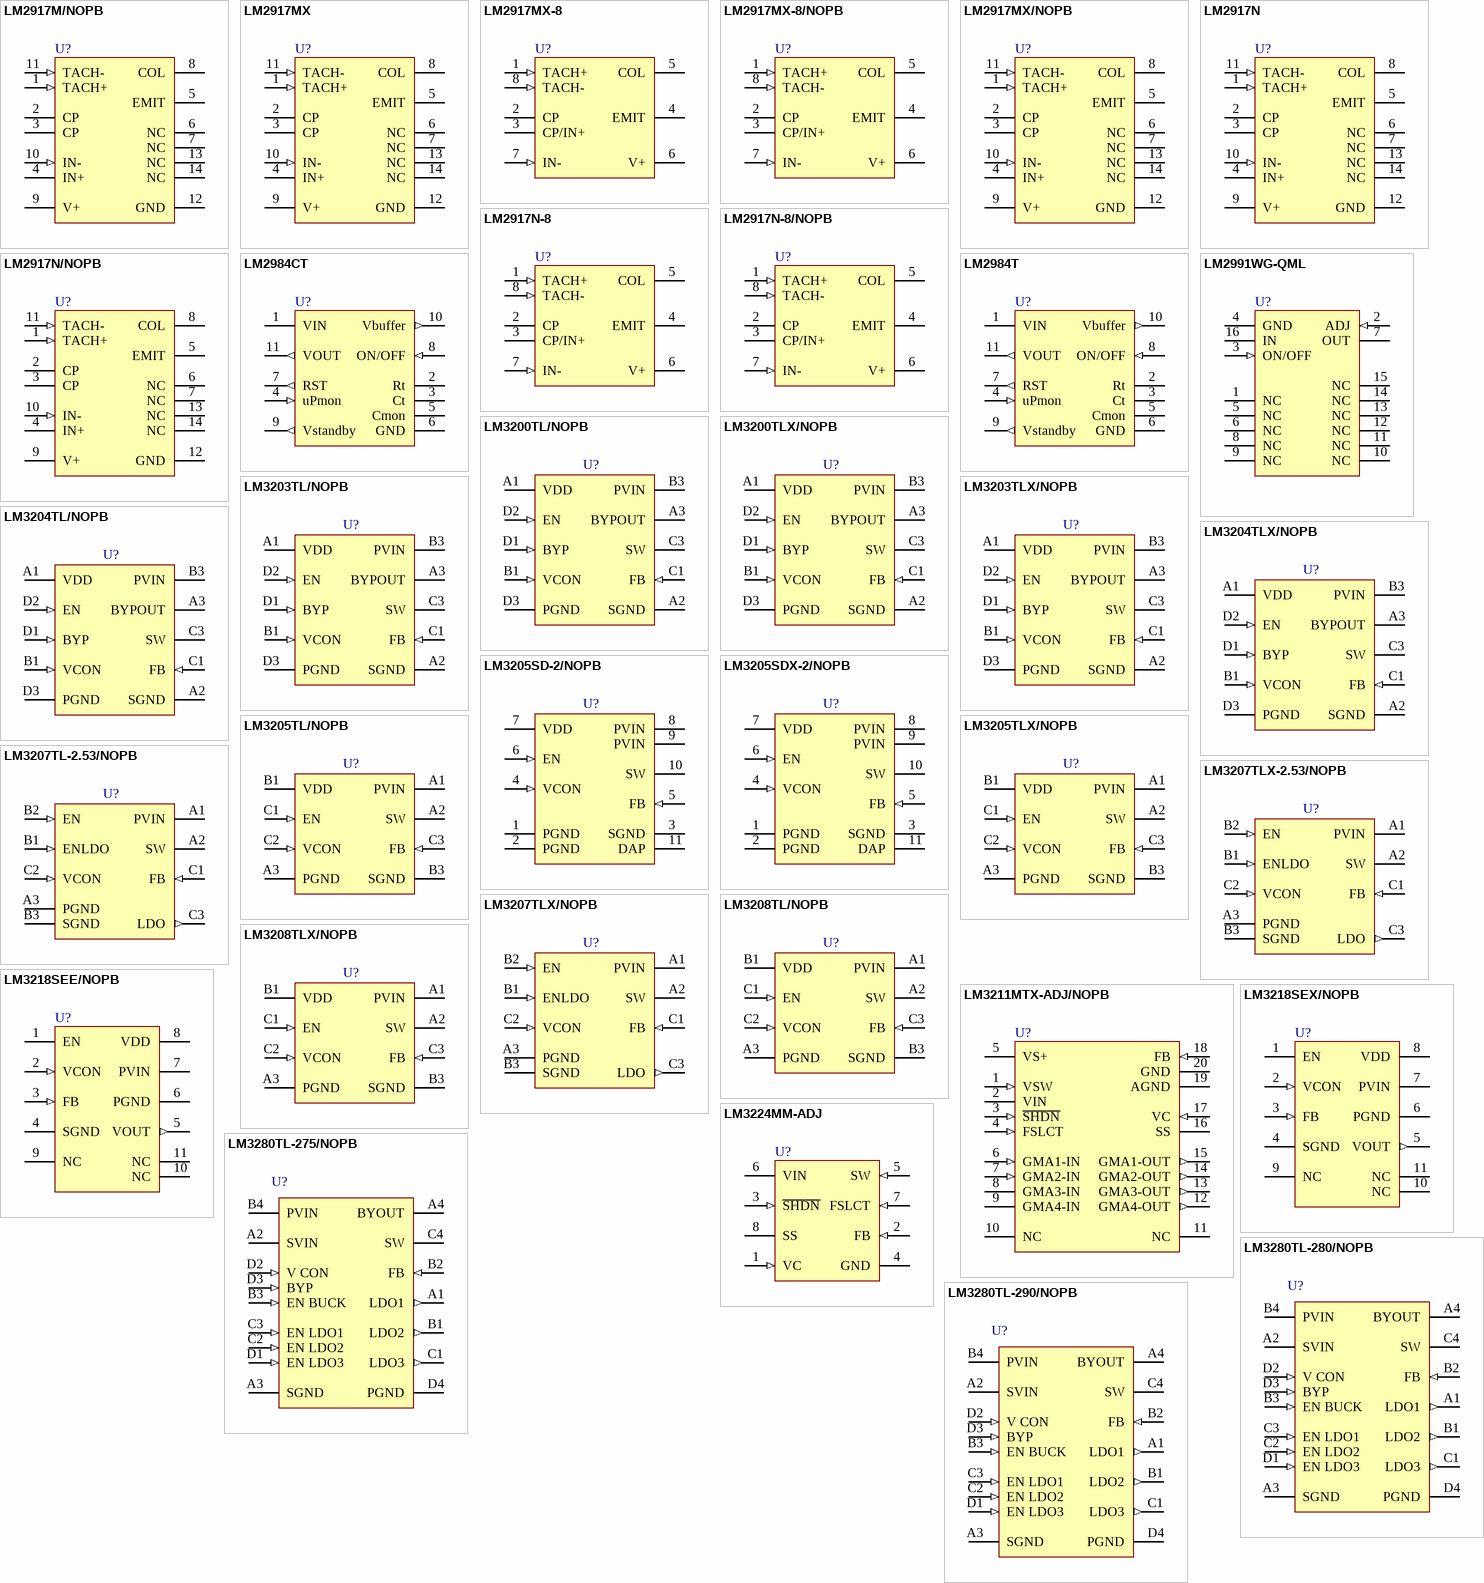
[diagram p8: symbols LM2917M/NOPB to LM3280TL-290/NOPB]

## LM2917M/NOPB
designator U?
Frequency to Voltage Converter, 14-pin Narrow SOIC, 55 Rail; PartNumber: LM2917M/NOPB; Manufacturer: National Semiconductor; PackageTopMarking: NSUZXYTTE#*LM2917M; PowerWise: N; CompType: MiscPower; High-Reliability: Y; DatasheetVersion: Dec-2008; PackageVersion: revJ, Jan-1996; PackageReference: M14A; PackageDescription: Molded Package S.O., .150in Wide, 14 Lead; RoHS: Y; PinCount: 14; Code_JEDEC: MS-012AB; Code_IPC: SOIC127P600-14; ComponentLink1Description: Manufacturer URL; ComponentLink1URL: http://www.national.com/; ComponentLink2Description: LM2917 Datasheet; ComponentLink2URL: http://www.national.com/ds/LM/LM2917.pdf; ComponentLink3Description: LM2917 Web Page; ComponentLink3URL: http://www.national.com/pf/LM/LM2917.html; ComponentLink4Description: M14A Package Page; ComponentLink4URL: http://www.national.com/packaging/folders/m14a.html
footprint M14A_N (SOIC, 14-Leads, Body 8.6x3.9mm, Pitch 1.27mm, IPC Medium Density)
footprint M14A_L (SOIC, 14-Leads, Body 8.6x3.9mm, Pitch 1.27mm, IPC High Density)
footprint M14A_M (SOIC, 14-Leads, Body 8.6x3.9mm, Pitch 1.27mm, IPC Low Density)
pins: 1 TACH+ (in), 2 CP, 3 CP, 4 IN+, 5 EMIT, 6 NC, 7 NC, 8 COL, 9 V+ (power), 10 IN- (in), 11 TACH- (in), 12 GND (power), 13 NC, 14 NC

## LM2917MX
designator U?
Frequency to Voltage Converter, 14-pin Narrow SOIC; PartNumber: LM2917MX; Manufacturer: National Semiconductor; PackageTopMarking: NSUZXYTTE#*LM2917M; PowerWise: N; CompType: MiscPower; High-Reliability: Y; DatasheetVersion: Dec-2008; PackageVersion: revJ, Jan-1996; PackageReference: M14A; PackageDescription: Molded Package S.O., .150in Wide, 14 Lead; RoHS: N; PinCount: 14; Code_JEDEC: MS-012AB; Code_IPC: SOIC127P600-14; ComponentLink1Description: Manufacturer URL; ComponentLink1URL: http://www.national.com/; ComponentLink2Description: LM2917 Datasheet; ComponentLink2URL: http://www.national.com/ds/LM/LM2917.pdf; ComponentLink3Description: LM2917 Web Page; ComponentLink3URL: http://www.national.com/pf/LM/LM2917.html; ComponentLink4Description: M14A Package Page; ComponentLink4URL: http://www.national.com/packaging/folders/m14a.html
footprint M14A_N (SOIC, 14-Leads, Body 8.6x3.9mm, Pitch 1.27mm, IPC Medium Density)
footprint M14A_L (SOIC, 14-Leads, Body 8.6x3.9mm, Pitch 1.27mm, IPC High Density)
footprint M14A_M (SOIC, 14-Leads, Body 8.6x3.9mm, Pitch 1.27mm, IPC Low Density)
pins: 1 TACH+ (in), 2 CP, 3 CP, 4 IN+, 5 EMIT, 6 NC, 7 NC, 8 COL, 9 V+ (power), 10 IN- (in), 11 TACH- (in), 12 GND (power), 13 NC, 14 NC

## LM2917MX-8
designator U?
Frequency to Voltage Converter, 8-pin Narrow SOIC; PartNumber: LM2917MX-8; Manufacturer: National Semiconductor; PackageTopMarking: NSZXTT*LM29*17M-8; PowerWise: N; CompType: MiscPower; High-Reliability: Y; DatasheetVersion: Dec-2008; PackageVersion: revM, May-2009; PackageReference: M08A; PackageDescription: SOIC Narrow, 4.9 x 3.9 x 1.45mm, 8 Lead, 1.27mm Pitch; RoHS: N; PinCount: 8; Code_JEDEC: MS-012-AA; Code_IPC: SOIC127P600-8; ComponentLink1Description: Manufacturer URL; ComponentLink1URL: http://www.national.com/; ComponentLink2Description: LM2917 Datasheet; ComponentLink2URL: http://www.national.com/ds/LM/LM2917.pdf; ComponentLink3Description: LM2917 Web Page; ComponentLink3URL: http://www.national.com/pf/LM/LM2917.html; ComponentLink4Description: M08A Package Page; ComponentLink4URL: http://www.national.com/packaging/folders/m08a.html
footprint M08A_N (SOIC, 8-Leads, Body 4.9x3.9mm, Pitch 1.27mm, IPC Medium Density)
footprint M08A_L (SOIC, 8-Leads, Body 4.9x3.9mm, Pitch 1.27mm, IPC High Density)
footprint M08A_M (SOIC, 8-Leads, Body 4.9x3.9mm, Pitch 1.27mm, IPC Low Density)
pins: 1 TACH+ (in), 2 CP, 3 CP/IN+, 4 EMIT, 5 COL, 6 V+ (power), 7 IN- (in), 8 TACH- (in)

## LM2917MX-8/NOPB
designator U?
Frequency to Voltage Converter, 8-pin Narrow SOIC, 2500 Reel; PartNumber: LM2917MX-8/NOPB; Manufacturer: National Semiconductor; PackageTopMarking: NSZXTT*LM29*17M-8; PowerWise: N; CompType: MiscPower; High-Reliability: Y; DatasheetVersion: Dec-2008; PackageVersion: revM, May-2009; PackageReference: M08A; PackageDescription: SOIC Narrow, 4.9 x 3.9 x 1.45mm, 8 Lead, 1.27mm Pitch; RoHS: Y; PinCount: 8; Code_JEDEC: MS-012-AA; Code_IPC: SOIC127P600-8; ComponentLink1Description: Manufacturer URL; ComponentLink1URL: http://www.national.com/; ComponentLink2Description: LM2917 Datasheet; ComponentLink2URL: http://www.national.com/ds/LM/LM2917.pdf; ComponentLink3Description: LM2917 Web Page; ComponentLink3URL: http://www.national.com/pf/LM/LM2917.html; ComponentLink4Description: M08A Package Page; ComponentLink4URL: http://www.national.com/packaging/folders/m08a.html
footprint M08A_N (SOIC, 8-Leads, Body 4.9x3.9mm, Pitch 1.27mm, IPC Medium Density)
footprint M08A_L (SOIC, 8-Leads, Body 4.9x3.9mm, Pitch 1.27mm, IPC High Density)
footprint M08A_M (SOIC, 8-Leads, Body 4.9x3.9mm, Pitch 1.27mm, IPC Low Density)
pins: 1 TACH+ (in), 2 CP, 3 CP/IN+, 4 EMIT, 5 COL, 6 V+ (power), 7 IN- (in), 8 TACH- (in)

## LM2917MX/NOPB
designator U?
Frequency to Voltage Converter, 14-pin Narrow SOIC, 2500 Reel; PartNumber: LM2917MX/NOPB; Manufacturer: National Semiconductor; PackageTopMarking: NSUZXYTTE#*LM2917M; PowerWise: N; CompType: MiscPower; High-Reliability: Y; DatasheetVersion: Dec-2008; PackageVersion: revJ, Jan-1996; PackageReference: M14A; PackageDescription: Molded Package S.O., .150in Wide, 14 Lead; RoHS: Y; PinCount: 14; Code_JEDEC: MS-012AB; Code_IPC: SOIC127P600-14; ComponentLink1Description: Manufacturer URL; ComponentLink1URL: http://www.national.com/; ComponentLink2Description: LM2917 Datasheet; ComponentLink2URL: http://www.national.com/ds/LM/LM2917.pdf; ComponentLink3Description: LM2917 Web Page; ComponentLink3URL: http://www.national.com/pf/LM/LM2917.html; ComponentLink4Description: M14A Package Page; ComponentLink4URL: http://www.national.com/packaging/folders/m14a.html
footprint M14A_N (SOIC, 14-Leads, Body 8.6x3.9mm, Pitch 1.27mm, IPC Medium Density)
footprint M14A_L (SOIC, 14-Leads, Body 8.6x3.9mm, Pitch 1.27mm, IPC High Density)
footprint M14A_M (SOIC, 14-Leads, Body 8.6x3.9mm, Pitch 1.27mm, IPC Low Density)
pins: 1 TACH+ (in), 2 CP, 3 CP, 4 IN+, 5 EMIT, 6 NC, 7 NC, 8 COL, 9 V+ (power), 10 IN- (in), 11 TACH- (in), 12 GND (power), 13 NC, 14 NC

## LM2917N
designator U?
Frequency to Voltage Converter, 14-pin MDIP; PartNumber: LM2917N; Manufacturer: National Semiconductor; PackageTopMarking: NSUZXYYTTE#*LM2917N; PowerWise: N; CompType: MiscPower; High-Reliability: Y; DatasheetVersion: Dec-2008; PackageVersion: revG, May-2006; PackageReference: N14A; PackageDescription: MDIP, .750 x .250 x.130in, 14 Lead, .100in Pitch; RoHS: N; PinCount: 14; Code_JEDEC: MS-001-AA; ComponentLink1Description: Manufacturer URL; ComponentLink1URL: http://www.national.com/; ComponentLink2Description: LM2917 Datasheet; ComponentLink2URL: http://www.national.com/ds/LM/LM2917.pdf; ComponentLink3Description: LM2917 Web Page; ComponentLink3URL: http://www.national.com/pf/LM/LM2917.html; ComponentLink4Description: N14A Package Page; ComponentLink4URL: http://www.national.com/packaging/folders/n14a.html
footprint N14A (DIP, 14-Leads, Row Spacing 7.62mm, Pitch 2.54mm, Body 19.56x6.35mm)
pins: 1 TACH+ (in), 2 CP, 3 CP, 4 IN+, 5 EMIT, 6 NC, 7 NC, 8 COL, 9 V+ (power), 10 IN- (in), 11 TACH- (in), 12 GND (power), 13 NC, 14 NC

## LM2917N-8
designator U?
Frequency to Voltage Converter, 8-pin MDIP; PartNumber: LM2917N-8; Manufacturer: National Semiconductor; PackageTopMarking: NSUZXYTTE#*LM*2917N-8; PowerWise: N; CompType: MiscPower; High-Reliability: Y; DatasheetVersion: Dec-2008; PackageVersion: revG, May-2006; PackageReference: N08E; PackageDescription: MDIP, .365 x .250 x .130in, 8 Lead, .100in Pitch; RoHS: N; PinCount: 8; Code_JEDEC: MS-001-BA; ComponentLink1Description: Manufacturer URL; ComponentLink1URL: http://www.national.com/; ComponentLink2Description: LM2917 Datasheet; ComponentLink2URL: http://www.national.com/ds/LM/LM2917.pdf; ComponentLink3Description: LM2917 Web Page; ComponentLink3URL: http://www.national.com/pf/LM/LM2917.html; ComponentLink4Description: N08E Package Page; ComponentLink4URL: http://www.national.com/packaging/folders/n08e.html
footprint N08E (DIP, 8-Leads, Row Spacing 7.62mm, Pitch 2.54mm, Body 9.91x6.35mm)
pins: 1 TACH+ (in), 2 CP, 3 CP/IN+, 4 EMIT, 5 COL, 6 V+ (power), 7 IN- (in), 8 TACH- (in)

## LM2917N-8/NOPB
designator U?
Frequency to Voltage Converter, 8-pin MDIP, Pb-Free; PartNumber: LM2917N-8/NOPB; Manufacturer: National Semiconductor; PackageTopMarking: NSUZXYTTE#*LM*2917N-8; PowerWise: N; CompType: MiscPower; High-Reliability: Y; DatasheetVersion: Dec-2008; PackageVersion: revG, May-2006; PackageReference: N08E; PackageDescription: MDIP, .365 x .250 x .130in, 8 Lead, .100in Pitch; RoHS: Y; PinCount: 8; Code_JEDEC: MS-001-BA; ComponentLink1Description: Manufacturer URL; ComponentLink1URL: http://www.national.com/; ComponentLink2Description: LM2917 Datasheet; ComponentLink2URL: http://www.national.com/ds/LM/LM2917.pdf; ComponentLink3Description: LM2917 Web Page; ComponentLink3URL: http://www.national.com/pf/LM/LM2917.html; ComponentLink4Description: N08E Package Page; ComponentLink4URL: http://www.national.com/packaging/folders/n08e.html
footprint N08E (DIP, 8-Leads, Row Spacing 7.62mm, Pitch 2.54mm, Body 9.91x6.35mm)
pins: 1 TACH+ (in), 2 CP, 3 CP/IN+, 4 EMIT, 5 COL, 6 V+ (power), 7 IN- (in), 8 TACH- (in)

## LM2917N/NOPB
designator U?
Frequency to Voltage Converter, 14-pin MDIP, Pb-Free; PartNumber: LM2917N/NOPB; Manufacturer: National Semiconductor; PackageTopMarking: NSUZXYYTTE#*LM2917N; PowerWise: N; CompType: MiscPower; High-Reliability: Y; DatasheetVersion: Dec-2008; PackageVersion: revG, May-2006; PackageReference: N14A; PackageDescription: MDIP, .750 x .250 x.130in, 14 Lead, .100in Pitch; RoHS: Y; PinCount: 14; Code_JEDEC: MS-001-AA; ComponentLink1Description: Manufacturer URL; ComponentLink1URL: http://www.national.com/; ComponentLink2Description: LM2917 Datasheet; ComponentLink2URL: http://www.national.com/ds/LM/LM2917.pdf; ComponentLink3Description: LM2917 Web Page; ComponentLink3URL: http://www.national.com/pf/LM/LM2917.html; ComponentLink4Description: N14A Package Page; ComponentLink4URL: http://www.national.com/packaging/folders/n14a.html
footprint N14A (DIP, 14-Leads, Row Spacing 7.62mm, Pitch 2.54mm, Body 19.56x6.35mm)
pins: 1 TACH+ (in), 2 CP, 3 CP, 4 IN+, 5 EMIT, 6 NC, 7 NC, 8 COL, 9 V+ (power), 10 IN- (in), 11 TACH- (in), 12 GND (power), 13 NC, 14 NC

## LM2984CT
designator U?
Microprocessor Power Supply System, 11-pin TO-220; PartNumber: LM2984CT; Manufacturer: National Semiconductor; PackageTopMarking: NSUZXYTTE#*LM2984CT*P+; PowerWise: N; CompType: MiscPower; High-Reliability: Y; DatasheetVersion: May-1989; PackageVersion: revA, Mar-1987; PackageReference: TA11B; PackageDescription: TO-220, Molded, .788 x .421in Body, 11 Lead, .067in Pitch; RoHS: N; PinCount: 11; ComponentLink1Description: Manufacturer URL; ComponentLink1URL: http://www.national.com/; ComponentLink2Description: LM2984C Datasheet; ComponentLink2URL: http://www.national.com/ds/LM/LM2984C.pdf; ComponentLink3Description: LM2984C Web Page; ComponentLink3URL: http://www.national.com/pf/LM/LM2984C.html; ComponentLink4Description: TA11B Package Page; ComponentLink4URL: http://www.national.com/packaging/folders/ta11b.html
footprint TA11B (TO, Thru-Hole, Vertical, Heatsink Mounted; 11 Bent Staggered Leads; Body 20x10.7x4.5mm, Pitch 1.7 mm)
pins: 1 VIN (power), 2 Rt, 3 Ct, 4 uPmon (in), 5 Cmon, 6 GND (power), 7 RST (out), 8 ON/OFF (in), 9 Vstandby (out), 10 Vbuffer (out), 11 VOUT (out)

## LM2984T
designator U?
Microprocessor Power Supply System, 11-pin TO-220; PartNumber: LM2984T; Manufacturer: National Semiconductor; PackageTopMarking: NSUZXYTTE#*LM2984T; PowerWise: N; CompType: MiscPower; High-Reliability: Y; DatasheetVersion: Dec-2008; PackageVersion: revA, Mar-1987; PackageReference: TA11B; PackageDescription: TO-220, Molded, .788 x .421in Body, 11 Lead, .067in Pitch; RoHS: N; PinCount: 11; ComponentLink1Description: Manufacturer URL; ComponentLink1URL: http://www.national.com/; ComponentLink2Description: LM2984 Datasheet; ComponentLink2URL: http://www.national.com/ds/LM/LM2984.pdf; ComponentLink3Description: LM2984 Web Page; ComponentLink3URL: http://www.national.com/pf/LM/LM2984.html; ComponentLink4Description: TA11B Package Page; ComponentLink4URL: http://www.national.com/packaging/folders/ta11b.html
footprint TA11B (TO, Thru-Hole, Vertical, Heatsink Mounted; 11 Bent Staggered Leads; Body 20x10.7x4.5mm, Pitch 1.7 mm)
pins: 1 VIN (power), 2 Rt, 3 Ct, 4 uPmon (in), 5 Cmon, 6 GND (power), 7 RST (out), 8 ON/OFF (in), 9 Vstandby (out), 10 Vbuffer (out), 11 VOUT (out)

## LM2991WG-QML
designator U?
Negative Low Dropout Adjustable Regulator, 16-pin CerPACK; PartNumber: LM2991WG-QML; Manufacturer: National Semiconductor; PackageTopMarking: NSZSSXXYYA*LM2991WG-*QML Q 5962-*9650501QXA; PowerWise: N; CompType: MiscPower; High-Reliability: Y; DatasheetVersion: Sep-2000; PackageVersion: revE, Jul-2007; PackageReference: WG16A; PackageDescription: Cerpack, .390 x .250 x .070in, 16 Lead, .050in Pitch, Gull Wing; RoHS: N; PinCount: 16; ComponentLink1Description: Manufacturer URL; ComponentLink1URL: http://www.national.com/; ComponentLink2Description: LM2991 Datasheet; ComponentLink2URL: http://www.national.com/ds/LM/LM2991QML.pdf; ComponentLink3Description: LM2991 Web Page; ComponentLink3URL: http://www.national.com/pf/LM/LM2991.html; ComponentLink4Description: WG16A Package Page; ComponentLink4URL: http://www.national.com/packaging/folders/wg16a.html
footprint WG16A_N (CERPACK, 16-Leads, Body 9.9x6.5mm, Pitch 1.27mm, IPC Medium Density)
footprint WG16A_L (CERPACK, 16-Leads, Body 9.9x6.5mm, Pitch 1.27mm, IPC High Density)
footprint WG16A_M (CERPACK, 16-Leads, Body 9.9x6.5mm, Pitch 1.27mm, IPC Low Density)
pins: 1 NC, 2 ADJ (in), 3 ON/OFF (in), 4 GND (power), 5 NC, 6 NC, 7 OUT (power), 8 NC, 9 NC, 10 NC, 11 NC, 12 NC, 13 NC, 14 NC, 15 NC, 16 IN (power)

## LM3200TL/NOPB
designator U?
Miniature, Adjustable, Step-Down DC-DC Converter with Bypass Mode for RF Power Amplifiers, 10-pin Micro SMD, Pb-Free; PartNumber: LM3200TL/NOPB; Manufacturer: National Semiconductor; PackageTopMarking: XYTT*I SCUB; PowerWise: Y; CompType: MiscPower; DatasheetVersion: Nov-2005; PackageVersion: revD, Mar-2004; PackageReference: TLP10NHA; PackageDescription: Thin Micro SMD, 10 Bump (Large), Periperal, 0.5mm Pitch; RoHS: Y; PinCount: 10; High-Reliability: Y; Code_JEDEC: MO-211-BD; ComponentLink1Description: Manufacturer URL; ComponentLink1URL: http://www.national.com/; ComponentLink2Description: LM3200 Datasheet; ComponentLink2URL: http://www.national.com/ds/LM/LM3200.pdf; ComponentLink3Description: LM3200 Web Page; ComponentLink3URL: http://www.national.com/pf/LM/LM3200.html; ComponentLink4Description: TLP10NHA Package Page; ComponentLink4URL: http://www.national.com/packaging/folders/tlp10nha.html
footprint TLP10NHA (Micro SMD, 10-Leads, Body 2.17x1.82mm, Pitch 0.5mm, NSC Recommended)
pins: A1 VDD (power), A2 SGND (power), A3 BYPOUT (oe), B1 VCON (in), B3 PVIN (power), C1 FB (in), C3 SW, D1 BYP (in), D2 EN (in), D3 PGND (power)

## LM3200TLX/NOPB
designator U?
Miniature, Adjustable, Step-Down DC-DC Converter with Bypass Mode for RF Power Amplifiers, 10-pin Micro SMD, Pb-Free; PartNumber: LM3200TLX/NOPB; Manufacturer: National Semiconductor; PackageTopMarking: XYTT*I SCUB; PowerWise: Y; CompType: MiscPower; DatasheetVersion: Nov-2005; PackageVersion: revD, Mar-2004; PackageReference: TLP10NHA; PackageDescription: Thin Micro SMD, 10 Bump (Large), Periperal, 0.5mm Pitch; RoHS: Y; PinCount: 10; High-Reliability: Y; Code_JEDEC: MO-211-BD; ComponentLink1Description: Manufacturer URL; ComponentLink1URL: http://www.national.com/; ComponentLink2Description: LM3200 Datasheet; ComponentLink2URL: http://www.national.com/ds/LM/LM3200.pdf; ComponentLink3Description: LM3200 Web Page; ComponentLink3URL: http://www.national.com/pf/LM/LM3200.html; ComponentLink4Description: TLP10NHA Package Page; ComponentLink4URL: http://www.national.com/packaging/folders/tlp10nha.html
footprint TLP10NHA (Micro SMD, 10-Leads, Body 2.17x1.82mm, Pitch 0.5mm, NSC Recommended)
pins: A1 VDD (power), A2 SGND (power), A3 BYPOUT (oe), B1 VCON (in), B3 PVIN (power), C1 FB (in), C3 SW, D1 BYP (in), D2 EN (in), D3 PGND (power)

## LM3203TL/NOPB
designator U?
Miniature, Adjustable, Step-Down DC-DC Converter with Bypass Mode for RF Power Amplifiers, 10-pin Micro SMD, Pb-Free; PartNumber: LM3203TL/NOPB; Manufacturer: National Semiconductor; PackageTopMarking: XYTT*I SFYB; PowerWise: Y; CompType: MiscPower; DatasheetVersion: Jul-2005; PackageVersion: revD, Mar-2004; PackageReference: TLP10NHA; PackageDescription: Thin Micro SMD, 10 Bump (Large), Periperal, 0.5mm Pitch; RoHS: Y; PinCount: 10; High-Reliability: Y; Code_JEDEC: MO-211-BD; ComponentLink1Description: Manufacturer URL; ComponentLink1URL: http://www.national.com/; ComponentLink2Description: LM3203 Datasheet; ComponentLink2URL: http://www.national.com/ds/LM/LM3203.pdf; ComponentLink3Description: LM3203 Web Page; ComponentLink3URL: http://www.national.com/pf/LM/LM3203.html; ComponentLink4Description: TLP10NHA Package Page; ComponentLink4URL: http://www.national.com/packaging/folders/tlp10nha.html
footprint TLP10NHA (Micro SMD, 10-Leads, Body 2.17x1.82mm, Pitch 0.5mm, NSC Recommended)
pins: A1 VDD (power), A2 SGND (power), A3 BYPOUT (oe), B1 VCON (in), B3 PVIN (power), C1 FB (in), C3 SW, D1 BYP (in), D2 EN (in), D3 PGND (power)

## LM3203TLX/NOPB
designator U?
Miniature, Adjustable, Step-Down DC-DC Converter with Bypass Mode for RF Power Amplifiers, 10-pin Micro SMD, Pb-Free; PartNumber: LM3203TLX/NOPB; Manufacturer: National Semiconductor; PackageTopMarking: XYTT*I SFYB; PowerWise: Y; CompType: MiscPower; DatasheetVersion: Jul-2005; PackageVersion: revD, Mar-2004; PackageReference: TLP10NHA; PackageDescription: Thin Micro SMD, 10 Bump (Large), Periperal, 0.5mm Pitch; RoHS: Y; PinCount: 10; High-Reliability: Y; Code_JEDEC: MO-211-BD; ComponentLink1Description: Manufacturer URL; ComponentLink1URL: http://www.national.com/; ComponentLink2Description: LM3203 Datasheet; ComponentLink2URL: http://www.national.com/ds/LM/LM3203.pdf; ComponentLink3Description: LM3203 Web Page; ComponentLink3URL: http://www.national.com/pf/LM/LM3203.html; ComponentLink4Description: TLP10NHA Package Page; ComponentLink4URL: http://www.national.com/packaging/folders/tlp10nha.html
footprint TLP10NHA (Micro SMD, 10-Leads, Body 2.17x1.82mm, Pitch 0.5mm, NSC Recommended)
pins: A1 VDD (power), A2 SGND (power), A3 BYPOUT (oe), B1 VCON (in), B3 PVIN (power), C1 FB (in), C3 SW, D1 BYP (in), D2 EN (in), D3 PGND (power)